# Altium integrated library 2020-10-13_21-28-51.IntLib: 2 symbols
Pins are listed as number, name and electrical type; pins without a type are passive.

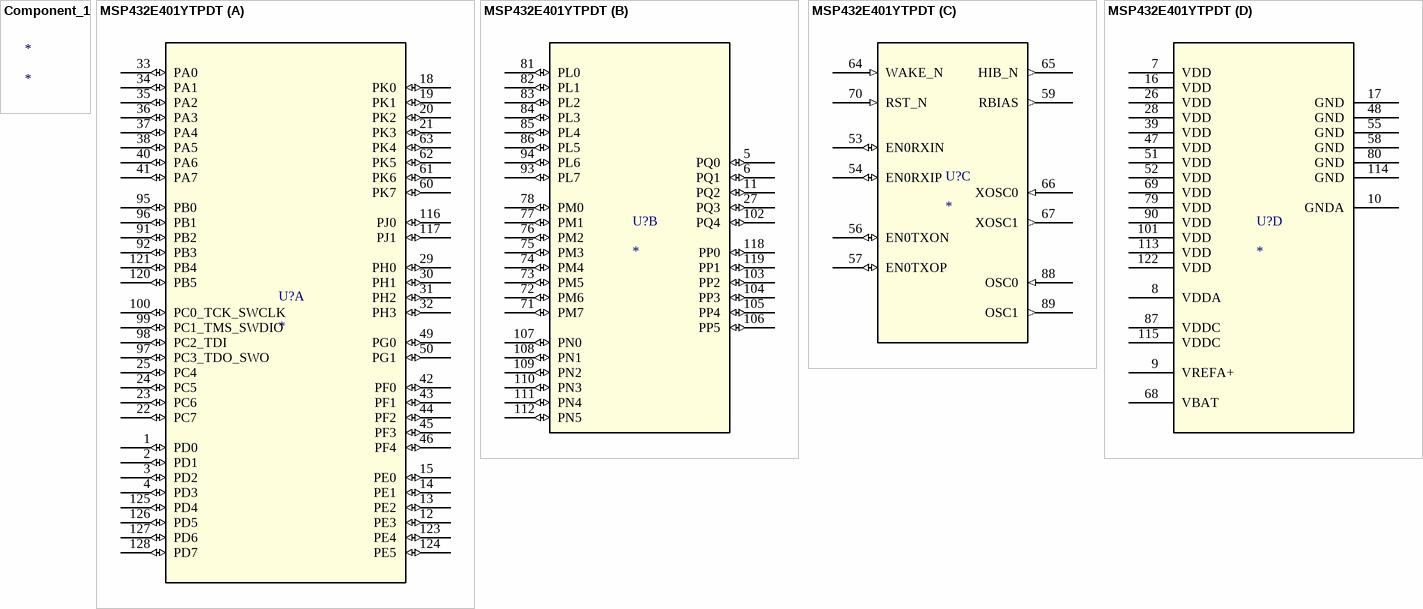
[diagram p0: symbols Component_1 to MSP432E401YTPDT]

## Component_1
designator *

## MSP432E401YTPDT
designator U?
No Description Available; Manufacturer: Texas Instruments; PartNumber: MSP432E401YTPDTR; RefDes: RefDes; Type: DEV; Value: Value; Copyright: Copyright (C) 2018 Accelerated Designs. All rights reserved
footprint PDT0128A
part A pins: 1 PD0 (io), 2 PD1 (io), 3 PD2 (io), 4 PD3 (io), 12 PE3 (io), 13 PE2 (io), 14 PE1 (io), 15 PE0 (io), 18 PK0 (io), 19 PK1 (io), 20 PK2 (io), 21 PK3 (io), 22 PC7 (io), 23 PC6 (io), 24 PC5 (io), 25 PC4 (io), 29 PH0 (io), 30 PH1 (io), 31 PH2 (io), 32 PH3 (io), 33 PA0 (io), 34 PA1 (io), 35 PA2 (io), 36 PA3 (io), 37 PA4 (io), 38 PA5 (io), 40 PA6 (io), 41 PA7 (io), 42 PF0 (io), 43 PF1 (io), 44 PF2 (io), 45 PF3 (io), 46 PF4 (io), 49 PG0 (io), 50 PG1 (io), 60 PK7 (io), 61 PK6 (io), 62 PK5 (io), 63 PK4 (io), 91 PB2 (io), 92 PB3 (io), 95 PB0 (io), 96 PB1 (io), 97 PC3_TDO_SWO (io), 98 PC2_TDI (io), 99 PC1_TMS_SWDIO (io), 100 PC0_TCK_SWCLK (io), 116 PJ0 (io), 117 PJ1 (io), 120 PB5 (io), 121 PB4 (io), 123 PE4 (io), 124 PE5 (io), 125 PD4 (io), 126 PD5 (io), 127 PD6 (io), 128 PD7 (io)
part B pins: 5 PQ0 (io), 6 PQ1 (io), 11 PQ2 (io), 27 PQ3 (io), 71 PM7 (io), 72 PM6 (io), 73 PM5 (io), 74 PM4 (io), 75 PM3 (io), 76 PM2 (io), 77 PM1 (io), 78 PM0 (io), 81 PL0 (io), 82 PL1 (io), 83 PL2 (io), 84 PL3 (io), 85 PL4 (io), 86 PL5 (io), 93 PL7 (io), 94 PL6 (io), 102 PQ4 (io), 103 PP2 (io), 104 PP3 (io), 105 PP4 (io), 106 PP5 (io), 107 PN0 (io), 108 PN1 (io), 109 PN2 (io), 110 PN3 (io), 111 PN4 (io), 112 PN5 (io), 118 PP0 (io), 119 PP1 (io)
part C pins: 53 EN0RXIN (io), 54 EN0RXIP (io), 56 EN0TXON (io), 57 EN0TXOP (io), 59 RBIAS (out), 64 WAKE_N (in), 65 HIB_N (out), 66 XOSC0 (in), 67 XOSC1 (out), 70 RST_N (in), 88 OSC0 (in), 89 OSC1 (out)
part D pins: 7 VDD (power), 8 VDDA (power), 9 VREFA+ (power), 10 GNDA (power), 16 VDD (power), 17 GND (power), 26 VDD (power), 28 VDD (power), 39 VDD (power), 47 VDD (power), 48 GND (power), 51 VDD (power), 52 VDD (power), 55 GND (power), 58 GND (power), 68 VBAT (power), 69 VDD (power), 79 VDD (power), 80 GND (power), 87 VDDC (power), 90 VDD (power), 101 VDD (power), 113 VDD (power), 114 GND (power), 115 VDDC (power), 122 VDD (power)